# Altium footprint library ELN1PcbLib.PcbLib: 9 footprints
Each footprint in its own frame and in the unit in brackets; x right, y up, seen from the top. Pads: shape width x height; smd on the part's side, far side on the other; paste and mask are expansions set on the pad; w line width, h text height; cw(c..) or ccw(c..) is an arc to the next point about the centre after c.
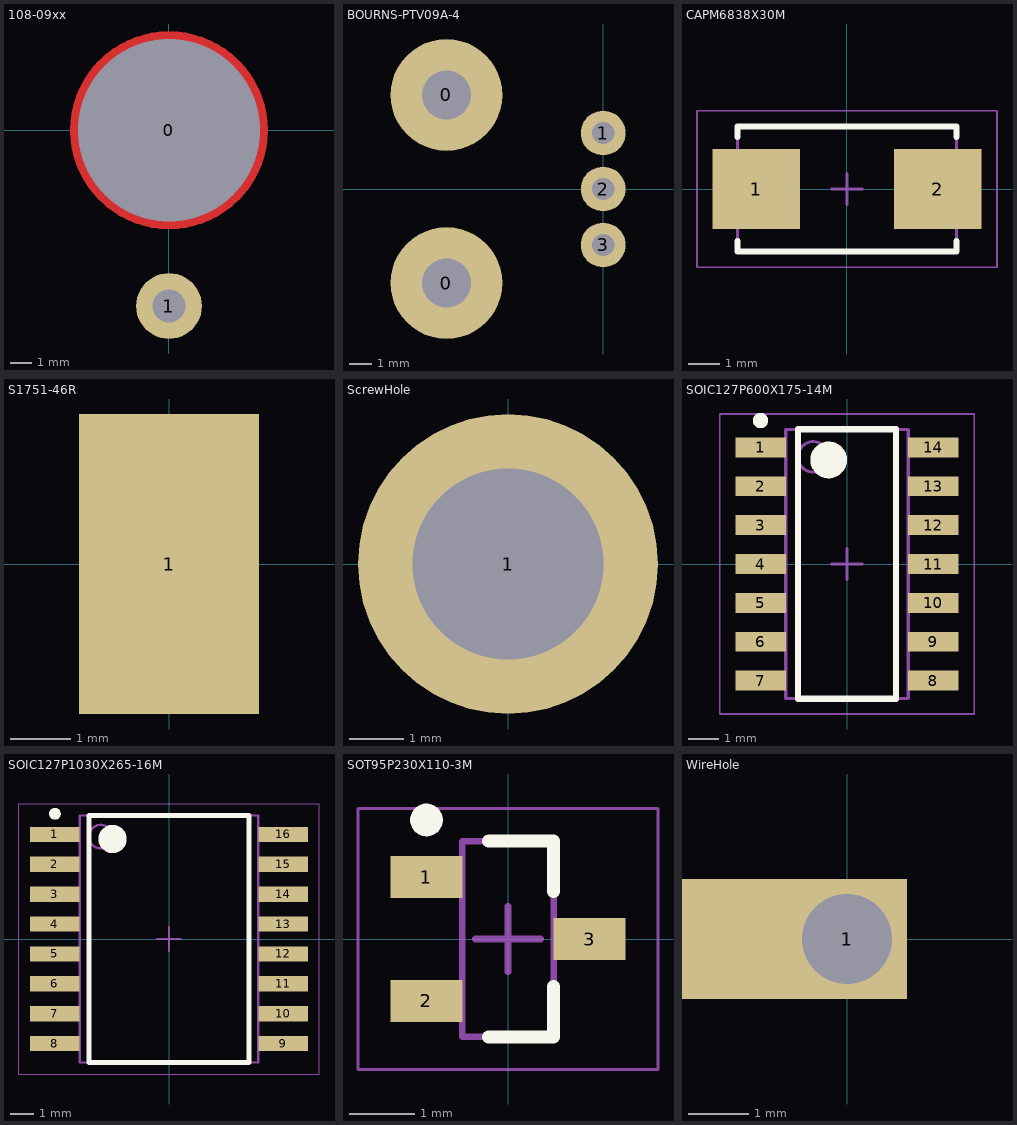
[diagram p0: the footprints below, top view; thin cyan lines are the x and y axes]

## 108-09xx [mm]
pads (2):
  round 1 hole 8.3 unplated mask+0.05: 0(0,0)
  round 3 hole 1.5 unplated mask+0.05: 1(0,-8)
Top Layer:
  circle w1: c0,0 r4
  circle w0.5: c0,0 r0.25
3D body: height 5.6, standoff -10, extent -2.3,-2.3 2.3,2.3
3D body: height -11, standoff -19, extent -2.5,-0.2 2.5,0.2
3D body: height 0, standoff -12, extent -4,-3.998 4,3.999
3D body: height 4.8, standoff 0, extent -4.4,-4.399 4.4,4.399

## BOURNS-PTV09A-4 [mm]
pads (5):
  round 5 hole 2.2 unplated mask+0.05: 0(-7,-4.2) 0(-7,4.2)
  round 2 hole 1 unplated mask+0.05: 1(0,2.5) 2(0,0) 3(0,-2.5)
3D body: height 3, standoff 0, extent -0.15,1.75 0.15,3.25
3D body: height 2, standoff -3, extent -0.15,2.225 0.15,2.775
3D body: height 3, standoff 2.7, extent -0.85,1.75 0.05,3.25
3D body: height 3, standoff 0, extent -0.15,-0.75 0.15,0.75
3D body: height 2, standoff -3, extent -0.15,-0.275 0.15,0.275
3D body: height 3, standoff 2.7, extent -0.85,-0.75 0.05,0.75
3D body: height 3, standoff 2.7, extent -0.85,-3.25 0.05,-1.75
3D body: height 2, standoff -3, extent -0.15,-2.775 0.15,-2.225
3D body: height 3, standoff 0, extent -0.15,-3.25 0.15,-1.75
3D body: height 6.6, standoff 0, extent -12.6,-4.5 -0.5,4.5
3D body: height 26.8, standoff 6.8, extent -10.4,-3.4 -3.6,3.4
3D body: height 6.8, standoff 0, extent -12.5,-4.75 -1.5,4.75

## CAPM6838X30M [mm] "Molded Capacitor, 2-Leads, Body 6.75x3.75mm, IPC Low Density"
height 3
pads (2):
  rect 2.8x2.55 smd: 1(-2.9,0) 2(2.9,0)
Top Overlay:
  lines w0.2: -3.5,-1.675 -3.5,-2 3.5,-2 3.5,-1.675 ; -3.5,1.675 -3.5,2 3.5,2 3.5,1.675
Assembly Top:
  lines w0.1: -3.5,-2 -3.5,2 3.5,2 3.5,-2 -3.5,-2
Courtyard Top:
  lines w0.05: -4.8,-2.5 -4.8,2.5 4.8,2.5 4.8,-2.5 -4.8,-2.5
  lines w0.1: -0.5,0 0.5,0 ; 0,-0.5 0,0.5
3D body: height 3, standoff 0, extent -3.5,-2 3.5,2

## S1751-46R [mm]
pads (1):
  rect 3x5 smd mask+0.05: 1(0,0)
3D body: height 2, standoff 0, extent -0.8,-1.6 0.8,-1.3
3D body: height 2, standoff 0, extent -0.8,1.3 0.8,1.6
3D body: height 0.3, standoff 0, extent -0.8,-1.6 0.8,1.6
3D body: height 2, standoff 1.7, extent -0.8,-1.6 0.8,1.6

## ScrewHole [mm]
pads (1):
  round 5.5 hole 3.5 unplated mask+0.05: 1(0,0)
3D body: height 1.7, standoff 0, extent -2.7,-2.699 2.7,2.699
3D body: height -1.6, standoff -25, extent -2.5,-2.9 2.5,2.9

## SOIC127P600X175-14M [mm] "SOIC, 14-Leads, Body 8.65x3.90mm, Pitch 1.27mm, IPC Low Density"
height 1.75
pads (14):
  rect 1.65x0.65 smd: 1(-2.825,3.81) 2(-2.825,2.54) 3(-2.825,1.27) 4(-2.825,0) 5(-2.825,-1.27) 6(-2.825,-2.54) 7(-2.825,-3.81) 8(2.825,-3.81) 9(2.825,-2.54) 10(2.825,-1.27) 11(2.825,0) 12(2.825,1.27) 13(2.825,2.54) 14(2.825,3.81)
Top Overlay:
  circle w0.25: c-2.825,4.685 r0.125
  circle w0.6: c-0.6,3.4 r0.3
  lines w0.2: -1.6,-4.4 -1.6,4.4 1.6,4.4 1.6,-4.4 -1.6,-4.4
Assembly Top:
  circle w0.1: c-1.1,3.5 r0.5
  lines w0.1: -2,-4.4 -2,4.4 2,4.4 2,-4.4 -2,-4.4
Courtyard Top:
  lines w0.05: -4.15,-4.9 -4.15,4.9 4.15,4.9 4.15,-4.9 -4.15,-4.9
  lines w0.1: -0.5,0 0.5,0 ; 0,-0.5 0,0.5
3D body: height 1.75, standoff 0.1, extent -2,-4.4 2,4.4

## SOIC127P1030X265-16M [mm] "SOIC, 16-Leads, Body 10.30x7.50mm, Pitch 1.27mm, IPC Low Density"
height 2.65
pads (16):
  rect 2.1x0.65 smd: 1(-4.85,4.445) 2(-4.85,3.175) 3(-4.85,1.905) 4(-4.85,0.635) 5(-4.85,-0.635) 6(-4.85,-1.905) 7(-4.85,-3.175) 8(-4.85,-4.445) 9(4.85,-4.445) 10(4.85,-3.175) 11(4.85,-1.905) 12(4.85,-0.635) 13(4.85,0.635) 14(4.85,1.905) 15(4.85,3.175) 16(4.85,4.445)
Top Overlay:
  circle w0.25: c-4.85,5.32 r0.125
  circle w0.6: c-2.4,4.25 r0.3
  lines w0.2: -3.4,-5.25 -3.4,5.25 3.4,5.25 3.4,-5.25 -3.4,-5.25
Assembly Top:
  circle w0.1: c-2.9,4.35 r0.5
  lines w0.1: -3.8,-5.25 -3.8,5.25 3.8,5.25 3.8,-5.25 -3.8,-5.25
Courtyard Top:
  lines w0.05: -6.375,-5.75 -6.375,5.75 6.375,5.75 6.375,-5.75 -6.375,-5.75
  lines w0.1: -0.5,0 0.5,0 ; 0,-0.5 0,0.5
3D body: height 2.65, standoff 0.1, extent -3.8,-5.25 3.8,5.25

## SOT95P230X110-3M [mm] "SOT23, 3-Leads, Body 2.90x2.30mm, Pitch 0.95mm, IPC Low Density"
height 1.1
pads (3):
  rect 1.1x0.65 smd: 1(-1.25,0.95) 2(-1.25,-0.95) 3(1.25,0)
Top Overlay:
  circle w0.25: c-1.25,1.825 r0.125
  lines w0.2: -0.3,-1.5 0.7,-1.5 0.7,-0.725 ; -0.3,1.5 0.7,1.5 0.7,0.725
Assembly Top:
  lines w0.1: -0.7,-1.5 0.7,-1.5 0.7,1.5 -0.7,1.5 -0.7,-1.5
Courtyard Top:
  lines w0.05: -2.3,-2 2.3,-2 2.3,2 -2.3,2 -2.3,-2
  lines w0.1: -0.5,0 0.5,0 ; 0,-0.5 0,0.5
3D body: height 1.1, standoff 0.05, extent -0.7,-1.5 0.7,1.5

## WireHole [mm]
pads (1):
  rect 5x2 hole 1.5 unplated copper offset -1.5,0 mask+0.05: 1(0,0)